# EAGLE library part MODULAR-8P8C (library Jordi)
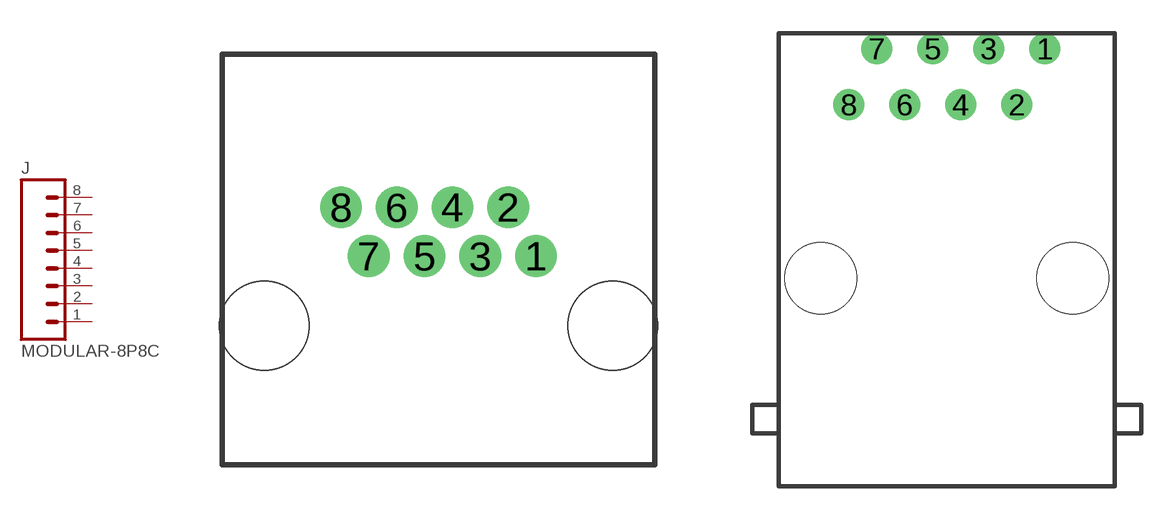
[diagram p23: symbol with the pads of MODULAR-8P8C-PTH-RA; footprints MODULAR-8P8C-PTH-RA, MODULAR-8P8C-PTH-RA-F]

Designator prefix J

## MODULAR-8P8CPTH  [MODULAR-8P8C-PTH-RA]
1  1  pas
2  2  pas
3  3  pas
4  4  pas
5  5  pas
6  6  pas
7  7  pas
8  8  pas

## MODULAR-8P8CPTH-F  [MODULAR-8P8C-PTH-RA-F]
Pads as for MODULAR-8P8C-PTH-RA

## Footprint MODULAR-8P8C-PTH-RA (pad centres in mm)
Digikey Part <http://www.digikey.com/product-detail/en/RJHSE-5080/RJHSE-5080-ND/1242687>
drill 0.889 pad 1.524: 1 3.556,2.54; 2 2.54,4.318; 3 1.524,2.54; 4 0.508,4.318; 5 -0.508,2.54; 6 -1.524,4.318; 7 -2.54,2.54; 8 -3.556,4.318
hole 3.251 at -6.35,0
hole 3.251 at 6.35,0

## Footprint MODULAR-8P8C-PTH-RA-F (pad centres in mm)
Futurlec Part <http://futurlec.com/Connectors/MODS8W8Wpr.shtml>
drill 0.89: 1 4.445,1.27; 2 3.175,-1.27; 3 1.905,1.27; 4 0.635,-1.27; 5 -0.635,1.27; 6 -1.905,-1.27; 7 -3.175,1.27; 8 -4.445,-1.27
hole 3.25 at 5.715,-9.14
hole 3.25 at -5.715,-9.14